# Altium footprint library IDC2-10R.PcbLib: 1 footprints
Each footprint in its own frame and in the unit in brackets; x right, y up, seen from the top. Pads: shape width x height; smd on the part's side, far side on the other; paste and mask are expansions set on the pad; w line width, h text height; cw(c..) or ccw(c..) is an arc to the next point about the centre after c.
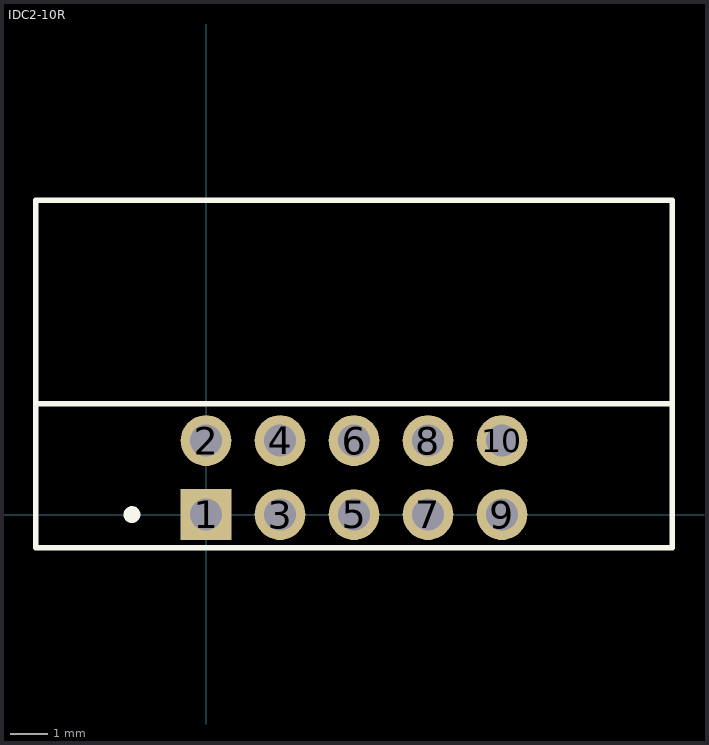
[diagram p0: the footprint, top view; thin cyan lines are the x and y axes]

## IDC2-10R [mil] "DS1014-10R, BH2-10R"
pads (10):
  rect 54x54 hole 34: 1(0,0)
  round 54 hole 34: 2(0,78.74) 3(78.74,0) 4(78.74,78.74) 5(157.48,0) 6(157.48,78.74) 7(236.22,0) 8(236.22,78.74) 9(314.96,0) 10(314.96,78.74)
Top Overlay:
  circle w10: c-78.74,0 r3.94
  lines w5.91: -181.1,118.11 496.06,118.11 ; -181.1,-35.43 496.06,-35.43 496.06,334.65 -181.1,334.65 -181.1,-35.43
3D body "IDC2-10R.step": height 220.47, standoff -106.3, extent -181.1,-11.81 496.06,332.68